# Altium integrated library M20-7910442R.IntLib: 1 symbol
Pins are listed as number, name and electrical type; pins without a type are passive.

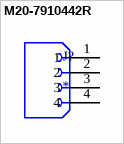
[diagram p0: symbol M20-7910442R]

## M20-7910442R
designator J?
4 Position Receptacle Connector 0.100 (2.54mm) Surface Mount, Right Angle Gold; MP: M20-7910442R; MF: Harwin Inc.; SnapEDA_Link: https://www.snapeda.com/parts/M20-7910442R/Harwin+Inc./view-part/?ref=snap; Package: None; Check_prices: https://www.snapeda.com/parts/M20-7910442R/Harwin+Inc./view-part/?ref=eda; Purchase-URL: https://pricing.snapeda.com/search/part/M20-7910442R/?ref=eda; Digi-Key_Part_Number: 952-3197-2-ND; Value: *
footprint HARWIN_M20-7910442R
pins: 1, 2, 3, 4